# EAGLE library part ADUM4160 (library kblom)
Full/Low Speed 5 kV USB Digital Isolator Applications: USB peripheral isolation Isolated USB hub Medical applications source <http://www.analog.com/static/imported-files/data_sheets/ADuM4160.pdf> iso
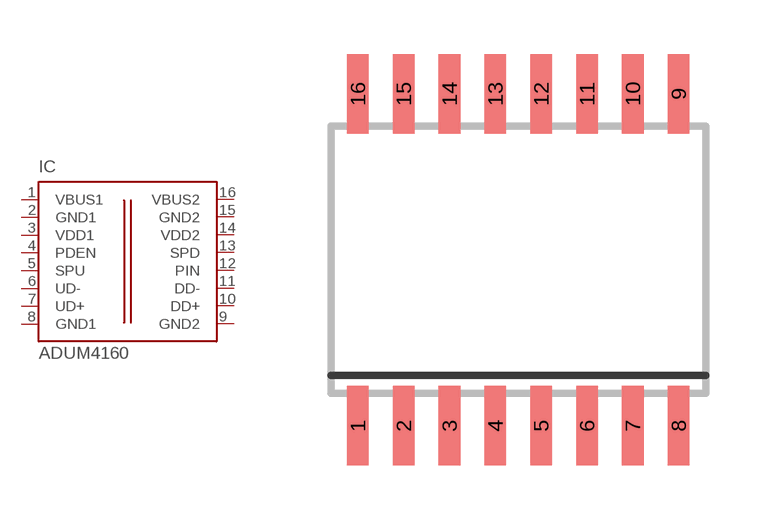
[diagram p5: symbol with the pads of SO16W; footprint SO16W]

Designator prefix IC

## ADUM4160BRW (FARNELL: 1858056)  [SO16W]
1  VBUS1  in
2  GND1  in
3  VDD1  in
4  PDEN  in
5  SPU  in
6  UD-  nc
7  UD+  nc
8  GND1  in
9  GND2  in
10  DD+  in
11  DD-  nc
12  PIN  hiz
13  SPD  hiz
14  VDD2  hiz
15  GND2  in
16  VBUS2  in

## Footprint SO16W (pad centres in mm)
16-Lead (Wide Body) Small Outline Package (R-16) Source: http://www.analog.com/UploadedFiles/Data_Sheets/409317160AD421_c.pdf
smd 0.6 x 2.2: 1 -4.445,-4.6; 2 -3.175,-4.6; 3 -1.905,-4.6; 4 -0.635,-4.6; 5 0.635,-4.6; 6 1.905,-4.6; 7 3.175,-4.6; 8 4.445,-4.6; 9 4.445,4.6; 10 3.175,4.6; 11 1.905,4.6; 12 0.635,4.6; 13 -0.635,4.6; 14 -1.905,4.6; 15 -3.175,4.6; 16 -4.445,4.6